# EAGLE library part MULTICOPTER_UART (library extension_board)
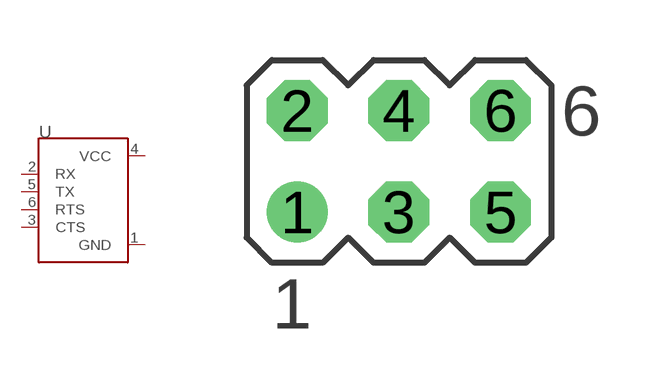
[diagram p5: symbol with the pads of MULTICOPTER_MA03-2; footprint MULTICOPTER_MA03-2]

Designator prefix -

## MULTICOPTER_UART  [MULTICOPTER_MA03-2]
1  GND
2  RX
3  CTS
4  VCC
5  TX
6  RTS

## Footprint MULTICOPTER_MA03-2 (pad centres in mm)
PIN HEADER
drill 1.016: 1 -2.54,-1.27
drill 1.016 octagon: 2 -2.54,1.27; 3 0,-1.27; 4 0,1.27; 5 2.54,-1.27; 6 2.54,1.27